# EAGLE library part 87368-18 (library untitled)
RECEPTACAL
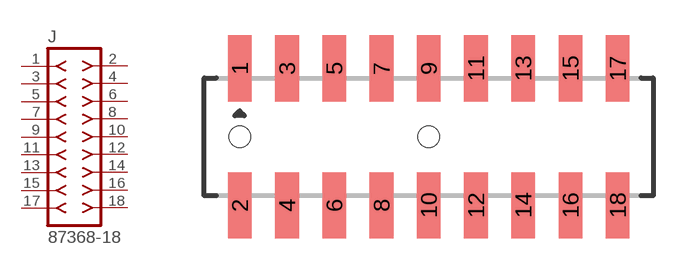
[diagram p188: symbol with the pads of 87368-18; footprint 87368-18]

Designator prefix J

## 87368-18  [87368-18]
1  1  pas
2  2  pas
3  3  pas
4  4  pas
5  5  pas
6  6  pas
7  7  pas
8  8  pas
9  9  pas
10  10  pas
11  11  pas
12  12  pas
13  13  pas
14  14  pas
15  15  pas
16  16  pas
17  17  pas
18  18  pas

## Footprint 87368-18 (pad centres in mm)
RECEPTACAL SMD Dual Row, Side Entry
smd 1 x 2.8: 1 -8,2.9; 2 -8,-2.9; 3 -6,2.9; 4 -6,-2.9; 5 -4,2.9; 6 -4,-2.9; 7 -2,2.9; 8 -2,-2.9; 9 0,2.9; 10 0,-2.9; 11 2,2.9; 12 2,-2.9; 13 4,2.9; 14 4,-2.9; 15 6,2.9; 16 6,-2.9; 17 8,2.9; 18 8,-2.9
hole 0.914 at -8,0
hole 0.914 at 0,0